# Altium schematic symbol library Resistors Ceramic SMD Other.SchLib: 6 symbols
Pins are listed as number, name and electrical type; pins without a type are passive.

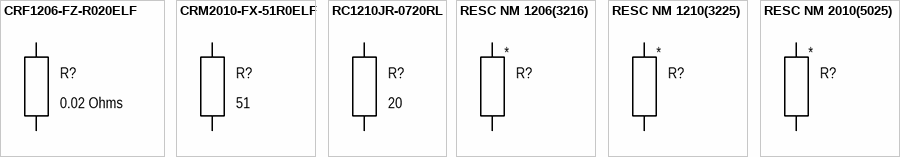
[diagram p0: symbols CRF1206-FZ-R020ELF to RESC NM 2010(5025)]

## CRF1206-FZ-R020ELF
designator R?, comment 0.02 Ohms
RESC 0.02 1206(3216); Manufacturer: Bourns; Part name: CRF1206-FZ-R020ELF; Group: Discrete; Temperature coefficient: ±100ppm/°C; Tolerance: ±1%; Power: 1W; Component: Resistor Ceramic; Type: Thin film; Package: 1206 (3216); Resistance: 0.02 Ohms; Dimension: 5.00mm x 2.50mm; Height: 0.85mm; Operating temperature: -55°C +155°C; Mounting type: Surface mount
footprint RESC3216N (Chip Resistor, Body 3.2x1.6mm, IPC High Density)
footprint RESC3216M (Chip Resistor, Body 3.2x1.6mm, IPC High Density)
footprint RESC3216L (Chip Resistor, Body 3.2x1.6mm, IPC High Density)
pins: 1, 2

## CRM2010-FX-51R0ELF
designator R?, comment 51
RESC 51.0 2010(5025); Manufacturer: Bourns; Part name: CRM2010-FX-51R0ELF; Group: Discrete; Temperature coefficient: ±100ppm/°C; Tolerance: ±1%; Power: 1W; Component: Resistor Ceramic; Type: Thin film; Package: 2010 (5025); Resistance: 51; Dimension: 5.00mm x 2.50mm; Height: 0.70mm; Operating temperature: -55°C +155°C; Mounting type: Surface mount
footprint RESC5025N (Chip Resistor, Body 5.0x2.5mm, IPC High Density)
footprint RESC5025M (Chip Resistor, Body 5.0x2.5mm, IPC High Density)
footprint RESC5025L (Chip Resistor, Body 5.0x2.5mm, IPC High Density)
pins: 1, 2

## RC1210JR-0720RL
designator R?, comment 20
RESC 20 1210(3225); Manufacturer: Yageo; Part name: RC1210JR-0720RL; Group: Discrete; Temperature coefficient: ±100ppm/°C; Tolerance: ±1%; Power: 0.5W; Component: Resistor Ceramic; Type: Thin film; Package: 1210 (3225); Resistance: 20; Dimension: 3.10mm x 2.60mm; Height: 0.60mm; Operating temperature: -55°C +155°C; Mounting type: Surface mount
footprint RESC3225N (Chip Resistor, Body 3.2x2.5mm, IPC High Density)
footprint RESC3225M (Chip Resistor, Body 3.2x2.5mm, IPC High Density)
footprint RESC3225L (Chip Resistor, Body 3.2x2.5mm, IPC High Density)
pins: 1, 2

## RESC NM 1206(3216)
designator R?  (no BOM)
RESC NM 1206(3216); Group: Discrete; Component: Resistor Ceramic; Package: 1206 (3216); Dimension: 5.00mm x 2.50mm; Height: 0.85mm; Mounting type: Surface mount (Not mounted)
footprint RESC3216N_NM (Chip Resistor, Body 3.2x1.6mm, IPC High Density)
footprint RESC3216M_NM (Chip Resistor, Body 3.2x1.6mm, IPC High Density)
footprint RESC3216L_NM (Chip Resistor, Body 3.2x1.6mm, IPC High Density)
pins: 1, 2

## RESC NM 1210(3225)
designator R?  (no BOM)
RESC NM 1210(3225); Group: Discrete; Component: Resistor Ceramic; Package: 1210 (3225); Dimension: 3.10mm x 2.60mm; Height: 0.60mm; Mounting type: Surface mount (Not mounted)
footprint RESC3225N_NM (Chip Resistor, Body 3.2x2.5mm, IPC High Density)
footprint RESC3225M_NM (Chip Resistor, Body 3.2x2.5mm, IPC High Density)
footprint RESC3225L_NM (Chip Resistor, Body 3.2x2.5mm, IPC High Density)
pins: 1, 2

## RESC NM 2010(5025)
designator R?  (no BOM)
RESC NM 2010(5025); Group: Discrete; Component: Resistor Ceramic; Package: 2010 (5025); Dimension: 5.00mm x 2.50mm; Height: 0.70mm; Mounting type: Surface mount (Not mounted)
footprint RESC5025N_NM (Chip Resistor, Body 5.0x2.5mm, IPC High Density)
footprint RESC5025M_NM (Chip Resistor, Body 5.0x2.5mm, IPC High Density)
footprint RESC5025L_NM (Chip Resistor, Body 5.0x2.5mm, IPC High Density)
pins: 1, 2